# Altium footprint library Relays.PcbLib: 1 footprints
Each footprint in its own frame and in the unit in brackets; x right, y up, seen from the top. Pads: shape width x height; smd on the part's side, far side on the other; paste and mask are expansions set on the pad; w line width, h text height; cw(c..) or ccw(c..) is an arc to the next point about the centre after c.
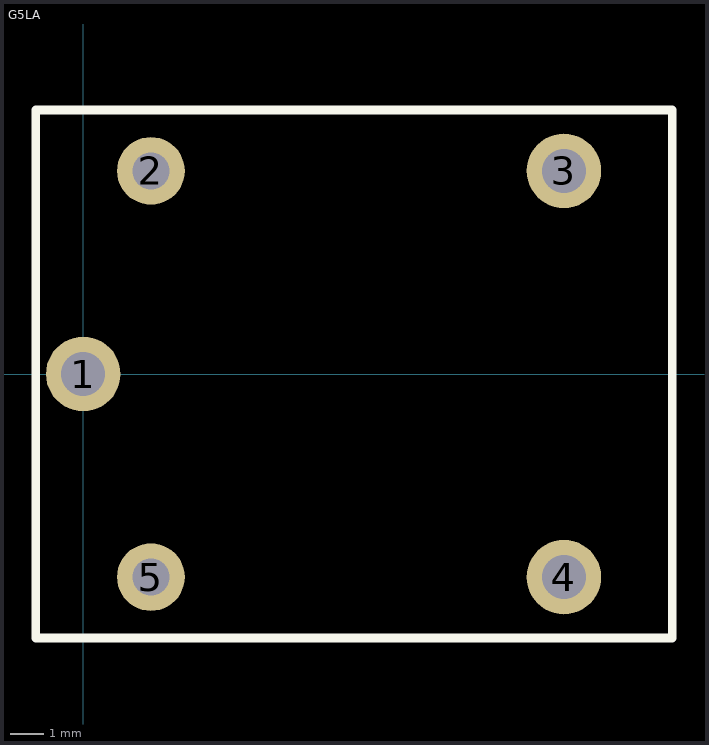
[diagram p0: the footprint, top view; thin cyan lines are the x and y axes]

## G5LA [mm] "Cubic, Single-pole 10A Power Relay"
height 15.8
pads (5):
  round 2.2 hole 1.3: 1(0,0) 3(14.2,6) 4(14.2,-6)
  round 2 hole 1.1: 2(2,6) 5(2,-6)
Top Overlay:
  lines w0.254: -1.4,-7.8 -1.4,7.8 17.399,7.8 17.399,6.604 17.399,-7.8 15.621,-7.8 -1.4,-7.8
3D body: height 15, standoff -3, extent -1.593,-7.95 17.907,7.95